# Altium schematic symbol library Diode_Bridge.SchLib: 1 symbol
Pins are listed as number, name and electrical type; pins without a type are passive.

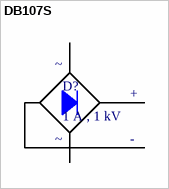
[diagram p0: symbol DB107S]

## DB107S
designator D?, comment 1 A , 1 kV
Bridge Rectifiers 1A 1000V; Manufacturer: Rectron; Manufacturer Part Number: DB107S; Forward Voltage: 1.1 V; Max Surge Current: 40 A; Peak Reverse Voltage: 1 kV; Reverse Current: 5 uA; Forward Current: 1 A; Maximum Diode Capacitance: N/A; Power Dissipation: N/A; Recovery Time: N/A; Supplier 1: Mouser; Supplier 1 Part Number: 583-DB107S; Supplier 1 URL: https://www.mouser.com/ProductDetail/Rectron/DB107S?qs=G5AQjGfRJcJjPe5M2MA7ww%3D%3D; Supplier 2: Digi-Key; Supplier 2 Part Number: N/A; Supplier 2 URL: N/A; Supplier 3: thegioiic; Supplier 3 Part Number: DB107S; Supplier 3 URL: https://www.thegioiic.com/db107s-cau-chinh-luu-1kv-1a; Type: Bridge Rectifiers; Value: 1 A , 1 kV; Mount: SMD/SMT; Operating Temperature Max: + 85 C; Operating Temperature Min: - 40 C; Packaging: Tube; ComponentLink1Description: Datasheet; ComponentLink1URL: https://www.mouser.com/datasheet/2/345/db101s_1012s-17410.pdf; LCSC Part #: C5377
footprint DB107S (SOP, 4-Leads, Body 8.30x6.35mm, Pitch 5.10mm, IPC Medium Density)
pins: 1 ~, 2 ~, 3 +, 4 -